# Altium footprint library pcb.PcbLib: 34 footprints (part 2 of 3)
Each footprint in its own frame and in the unit in brackets; x right, y up, seen from the top. Pads: shape width x height; smd on the part's side, far side on the other; paste and mask are expansions set on the pad; w line width, h text height; cw(c..) or ccw(c..) is an arc to the next point about the centre after c.
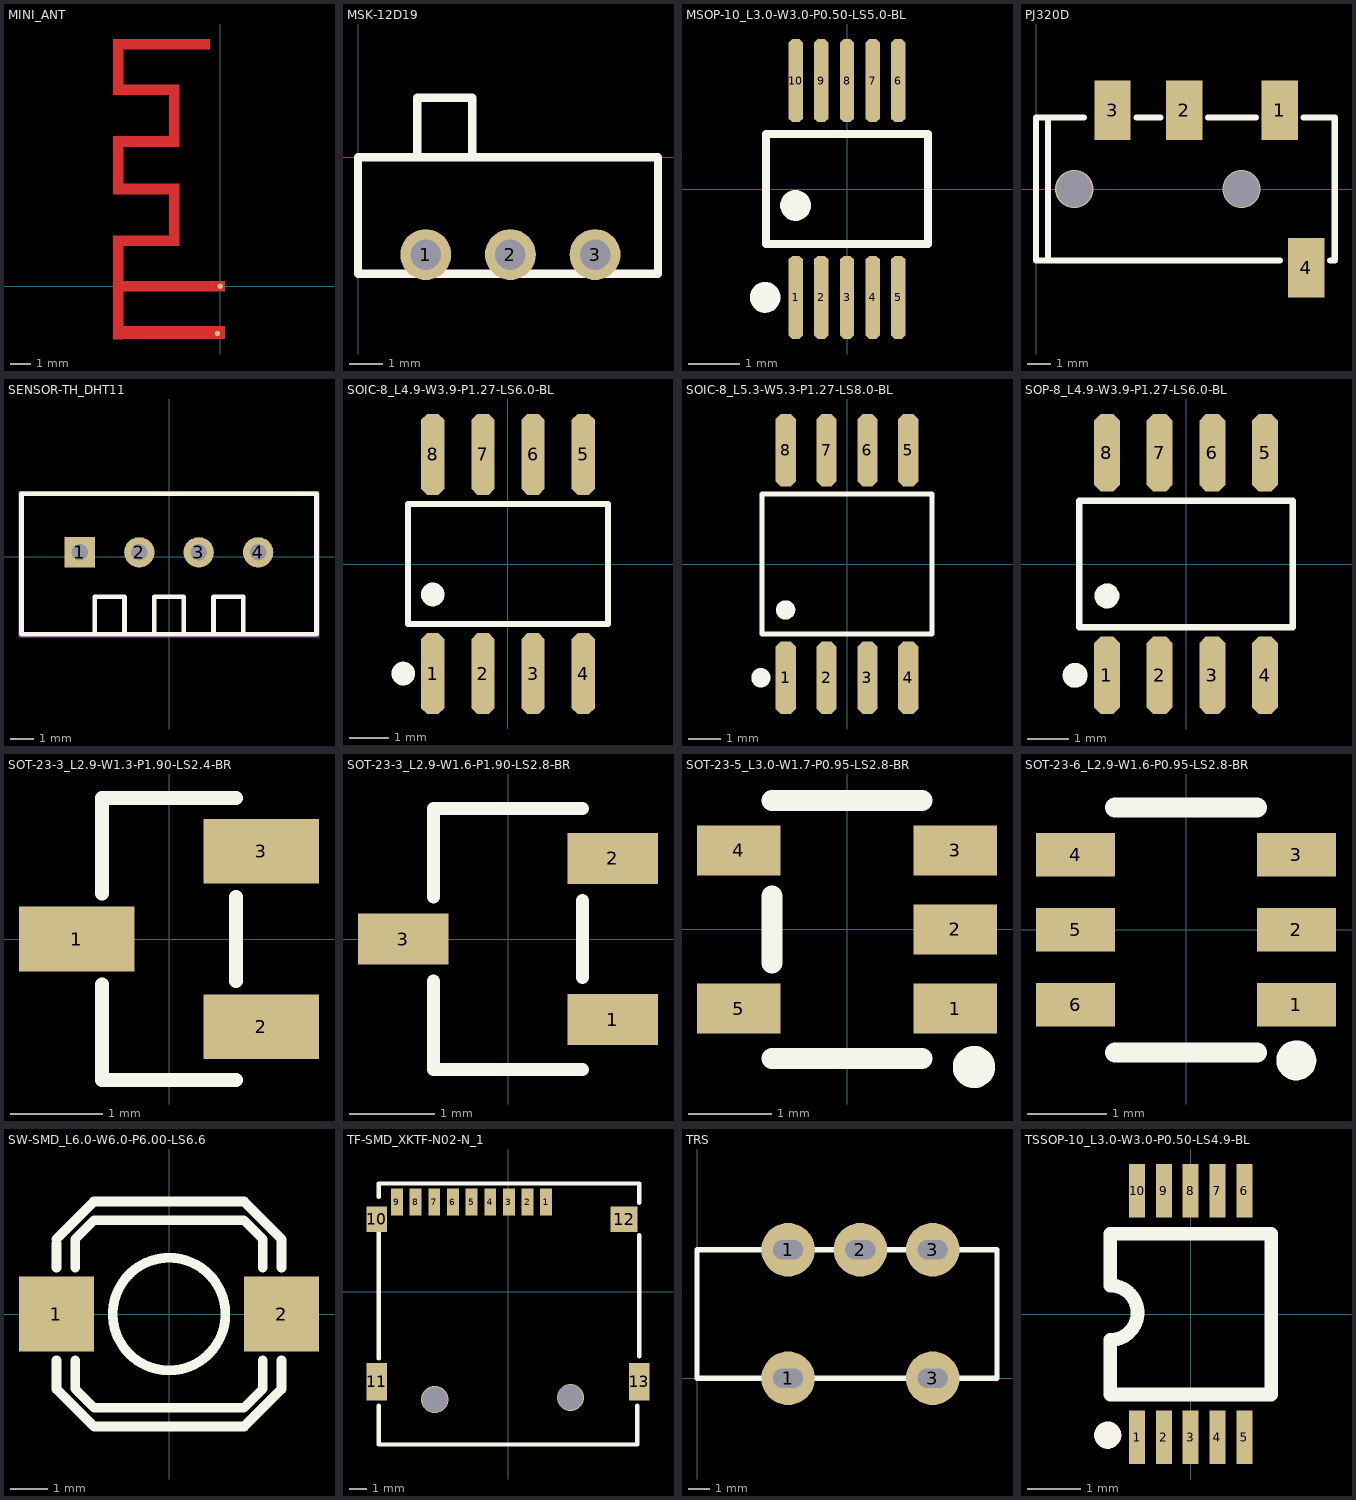
[diagram p1: the footprints below, top view; thin cyan lines are the x and y axes]

## MINI_ANT [mil]
pads (2):
  round 10 smd: 1(0,0) 2(-5,-90)
Top Layer:
  region: -184,-100.4 -203.7,-100.4 -203.7,96.5 -97.4,96.5 -97.4,175.2 -203.7,175.2 -203.7,285.5 -97.4,285.5 -97.4,364.2 -203.7,364.2 -203.7,470.5 -19.7,470.5 -19.7,450.8 -184,450.8 -184,383.9 -77.7,383.9 -77.7,265.8 -184,265.8 -184,194.9 -77.7,194.9 -77.7,76.8 -184,76.8 -184,9.9 8.9,9.9 8.9,-9.8 -184,-9.8
  region: -193.9,-100.3 8.9,-100.3 8.9,-75.7 -193.9,-75.7

## MSK-12D19 [mil]
pads (3):
  round 60 hole 36 mask+4: 1(80,-115) 2(180,-115) 3(280,-115)
Top Overlay:
  lines w10: 0,-137.8 354.3,-137.8 354.3,0 0,0 0,-137.8 ; 70,0 135,0 135,70 70,70 70,0

## MSOP-10_L3.0-W3.0-P0.50-LS5.0-BL [mil]
pads (10):
  oct 11x63.8 smd mask+2: 1(-39.4,-83.1) 2(-19.7,-83.1) 3(0,-83.1) 4(19.7,-83.1) 5(39.4,-83.1) 6(39.4,83.1) 7(19.7,83.1) 8(0,83.1) 9(-19.7,83.1) 10(-39.4,83.1)
Top Overlay:
  lines w6: -62.1,-42.2 -62.1,42.2 62.1,42.2 62.1,-42.2 -62.1,-42.2
  lines w11.8: -68.58,-83.57 -68.43,-84.51 ; -68.58,-82.63 -68.43,-81.69 ; -68.13,-85.41 -67.69,-86.25 ; -68.13,-80.79 -67.69,-79.95 ; -67.12,-87.01 -66.43,-87.67 ; -67.12,-79.19 -66.43,-78.53 ; -65.65,-88.21 -64.79,-88.62 ; -65.65,-77.99 -64.79,-77.58 ; -63.88,-88.88 -62.94,-89 ; -63.88,-77.32 -62.94,-77.2 ; -61.99,-88.96 -61.06,-88.77 ; -61.99,-77.24 -61.06,-77.43 ; -60.17,-88.43 -59.35,-87.96 ; -60.17,-77.77 -59.35,-78.24 ; -58.61,-87.36 -57.98,-86.64 ; -58.61,-78.84 -57.98,-79.56 ; -57.48,-85.84 -57.1,-84.97 ; -57.48,-80.36 -57.1,-81.23 ; -56.88,-84.05 -56.8,-83.1 -56.88,-82.15 ; -45.28,-13.07 -45.13,-14.01 ; -45.28,-12.13 -45.13,-11.19 ; -44.83,-14.91 -44.39,-15.75 ; -44.83,-10.29 -44.39,-9.45 ; -43.82,-16.51 -43.13,-17.17 ; -43.82,-8.69 -43.13,-8.03 ; -42.35,-17.71 -41.49,-18.12 ; -42.35,-7.49 -41.49,-7.08 ; -40.58,-18.38 -39.64,-18.5 ; -40.58,-6.82 -39.64,-6.7 ; -38.69,-18.46 -37.76,-18.27 ; -38.69,-6.74 -37.76,-6.93 ; -36.87,-17.93 -36.05,-17.46 ; -36.87,-7.27 -36.05,-7.74 ; -35.31,-16.86 -34.68,-16.14 ; -35.31,-8.34 -34.68,-9.06 ; -34.18,-15.34 -33.8,-14.47 ; -34.18,-9.86 -33.8,-10.73 ; -33.58,-13.55 -33.5,-12.6 -33.58,-11.65

## PJ320D [mil]
pads (4):
  rect 60x98.4 smd mask+4: 1(401.6,129.9) 2(244.1,129.9) 3(126,129.9) 4(444.9,-129.9)
via 63,0 diameter 62.99 hole 59.06
via 338.6,0 diameter 62.99 hole 59.06
Top Overlay:
  lines w10: 19.7,-118.1 19.7,118.1 ; 78.7,118.1 0,118.1 0,0 0,-118.1 401.6,-118.1 ; 165.4,118.1 204.7,118.1 ; 283.5,118.1 362.2,118.1 ; 440.9,118.1 492.1,118.1 492.1,-118.1 484.3,-118.1

## SENSOR-TH_DHT11 [mil]
pads (4):
  rect 51x51 hole 28 mask+2: 1(-150,7.9)
  round 51 hole 28 mask+2: 2(-50,7.9) 3(50,7.9) 4(150,7.9)
Top Overlay:
  lines w8: -248.4,-129.9 150,-129.9 248.4,-129.9 ; -248.4,-128.3 -248.4,7.9 -248.4,106.3 150,106.3 248.4,106.3 248.4,7.9 248.4,-128.3 ; -125,-129.9 -125,-67.1 -75,-67.1 -75,-129.9 ; -25,-129.9 -25,-67.1 25,-67.1 25,-129.9 ; 75,-129.9 75,-67.1 125,-67.1 125,-129.9
Mechanical 15:
  region: -139.9,7.9 -141.91,7.9 -145.62,6.36 -148.46,3.52 -150,-0.19 -150,-4.21 -148.46,-7.92 -145.62,-10.76 -141.91,-12.3 -139.9,-12.3 -137.89,-12.3 -134.18,-10.76 -131.34,-7.92 -129.8,-4.21 -129.8,-0.19 -131.34,3.52 -134.18,6.36 -137.89,7.9
  region: -39.9,7.9 -41.91,7.9 -45.62,6.36 -48.46,3.52 -50,-0.19 -50,-4.21 -48.46,-7.92 -45.62,-10.76 -41.91,-12.3 -39.9,-12.3 -37.89,-12.3 -34.18,-10.76 -31.34,-7.92 -29.8,-4.21 -29.8,-0.19 -31.34,3.52 -34.18,6.36 -37.89,7.9
  region: 60.1,7.9 58.09,7.9 54.38,6.36 51.54,3.52 50,-0.19 50,-4.21 51.54,-7.92 54.38,-10.76 58.09,-12.3 60.1,-12.3 62.11,-12.3 65.82,-10.76 68.66,-7.92 70.2,-4.21 70.2,-0.19 68.66,3.52 65.82,6.36 62.11,7.9
  region: 160.1,7.9 158.09,7.9 154.38,6.36 151.54,3.52 150,-0.19 150,-4.21 151.54,-7.92 154.38,-10.76 158.09,-12.3 160.1,-12.3 162.11,-12.3 165.82,-10.76 168.66,-7.92 170.2,-4.21 170.2,-0.19 168.66,3.52 165.82,6.36 162.11,7.9
  region: -250,110.3 -250.99,110.3 -252.4,108.89 -252.4,106.91 -250.99,105.5 -250,105.5 -249.01,105.5 -247.6,106.91 -247.6,108.89 -249.01,110.3
  lines w2: -252.4,-133.9 252.4,-133.9 252.4,110.3 -252.4,110.3 -252.4,-133.9

## SOIC-8_L4.9-W3.9-P1.27-LS6.0-BL [mil]
pads (8):
  oct 23.2x80.5 smd mask+2: 1(-75,-109.1) 2(-25,-109.1) 3(25,-109.1) 4(75,-109.1) 5(75,109.2) 6(25,109.2) 7(-25,109.2) 8(-75,109.2)
Top Overlay:
  lines w6: -99.5,-59.9 -99.5,59.9 99.5,59.9 99.5,-59.9 -99.5,-59.9
  lines w11.8: -110.28,-109.57 -110.13,-110.51 ; -110.28,-108.63 -110.13,-107.69 ; -109.83,-111.41 -109.39,-112.25 ; -109.83,-106.79 -109.39,-105.95 ; -108.82,-113.01 -108.13,-113.67 ; -108.82,-105.19 -108.13,-104.53 ; -107.35,-114.21 -106.49,-114.62 ; -107.35,-103.99 -106.49,-103.58 ; -105.58,-114.88 -104.64,-115 ; -105.58,-103.32 -104.64,-103.2 ; -103.69,-114.96 -102.76,-114.77 ; -103.69,-103.24 -102.76,-103.43 ; -101.87,-114.43 -101.05,-113.96 ; -101.87,-103.77 -101.05,-104.24 ; -100.31,-113.36 -99.68,-112.64 ; -100.31,-104.84 -99.68,-105.56 ; -99.18,-111.84 -98.8,-110.97 ; -99.18,-106.36 -98.8,-107.23 ; -98.58,-110.05 -98.5,-109.1 -98.58,-108.15 ; -80.88,-30.77 -80.73,-31.71 ; -80.88,-29.83 -80.73,-28.89 ; -80.43,-32.61 -79.99,-33.45 ; -80.43,-27.99 -79.99,-27.15 ; -79.42,-34.21 -78.73,-34.87 ; -79.42,-26.39 -78.73,-25.73 ; -77.95,-35.41 -77.09,-35.82 ; -77.95,-25.19 -77.09,-24.78 ; -76.18,-36.08 -75.24,-36.2 ; -76.18,-24.52 -75.24,-24.4 ; -74.29,-36.16 -73.36,-35.97 ; -74.29,-24.44 -73.36,-24.63 ; -72.47,-35.63 -71.65,-35.16 ; -72.47,-24.97 -71.65,-25.44 ; -70.91,-34.56 -70.28,-33.84 ; -70.91,-26.04 -70.28,-26.76 ; -69.78,-33.04 -69.4,-32.17 ; -69.78,-27.56 -69.4,-28.43 ; -69.18,-31.25 -69.1,-30.3 -69.18,-29.35

## SOIC-8_L5.3-W5.3-P1.27-LS8.0-BL [mil]
pads (8):
  oct 24.8x88.6 smd mask+2: 1(-75,-139) 2(-25,-139) 3(25,-139) 4(75,-139) 5(75,139) 6(25,139) 7(-25,139) 8(-75,139)
Top Overlay:
  lines w6: -103.9,-85.7 103.9,-85.7 103.9,85.7 -103.9,85.7 -103.9,-85.7
  lines w11.8: -111.08,-139.47 -110.93,-140.41 ; -111.08,-138.53 -110.93,-137.59 ; -110.63,-141.31 -110.19,-142.15 ; -110.63,-136.69 -110.19,-135.85 ; -109.62,-142.91 -108.93,-143.57 ; -109.62,-135.09 -108.93,-134.43 ; -108.15,-144.11 -107.29,-144.52 ; -108.15,-133.89 -107.29,-133.48 ; -106.38,-144.78 -105.44,-144.9 ; -106.38,-133.22 -105.44,-133.1 ; -104.49,-144.86 -103.56,-144.67 ; -104.49,-133.14 -103.56,-133.33 ; -102.67,-144.33 -101.85,-143.86 ; -102.67,-133.67 -101.85,-134.14 ; -101.11,-143.26 -100.48,-142.54 ; -101.11,-134.74 -100.48,-135.46 ; -99.98,-141.74 -99.6,-140.87 ; -99.98,-136.26 -99.6,-137.13 ; -99.38,-139.95 -99.3,-139 -99.38,-138.05 ; -80.88,-56.57 -80.73,-57.51 ; -80.88,-55.63 -80.73,-54.69 ; -80.43,-58.41 -79.99,-59.25 ; -80.43,-53.79 -79.99,-52.95 ; -79.42,-60.01 -78.73,-60.67 ; -79.42,-52.19 -78.73,-51.53 ; -77.95,-61.21 -77.09,-61.62 ; -77.95,-50.99 -77.09,-50.58 ; -76.18,-61.88 -75.24,-62 ; -76.18,-50.32 -75.24,-50.2 ; -74.29,-61.96 -73.36,-61.77 ; -74.29,-50.24 -73.36,-50.43 ; -72.47,-61.43 -71.65,-60.96 ; -72.47,-50.77 -71.65,-51.24 ; -70.91,-60.36 -70.28,-59.64 ; -70.91,-51.84 -70.28,-52.56 ; -69.78,-58.84 -69.4,-57.97 ; -69.78,-53.36 -69.4,-54.23 ; -69.18,-57.05 -69.1,-56.1 -69.18,-55.15

## SOP-8_L4.9-W3.9-P1.27-LS6.0-BL [mil]
pads (8):
  oct 24.8x73.4 smd mask+2: 1(-75,-105.6) 2(-25,-105.6) 3(25,-105.6) 4(75,-105.6) 5(75,105.6) 6(25,105.6) 7(-25,105.6) 8(-75,105.6)
Top Overlay:
  lines w6: -101.4,-59.9 101.4,-59.9 101.4,59.9 -101.4,59.9 -101.4,-59.9
  lines w11.8: -111.08,-106.07 -110.93,-107.01 ; -111.08,-105.13 -110.93,-104.19 ; -110.63,-107.91 -110.19,-108.75 ; -110.63,-103.29 -110.19,-102.45 ; -109.62,-109.51 -108.93,-110.17 ; -109.62,-101.69 -108.93,-101.03 ; -108.15,-110.71 -107.29,-111.12 ; -108.15,-100.49 -107.29,-100.08 ; -106.38,-111.38 -105.44,-111.5 ; -106.38,-99.82 -105.44,-99.7 ; -104.49,-111.46 -103.56,-111.27 ; -104.49,-99.74 -103.56,-99.93 ; -102.67,-110.93 -101.85,-110.46 ; -102.67,-100.27 -101.85,-100.74 ; -101.11,-109.86 -100.48,-109.14 ; -101.11,-101.34 -100.48,-102.06 ; -99.98,-108.34 -99.6,-107.47 ; -99.98,-102.86 -99.6,-103.73 ; -99.38,-106.55 -99.3,-105.6 -99.38,-104.65 ; -80.88,-30.77 -80.73,-31.71 ; -80.88,-29.83 -80.73,-28.89 ; -80.43,-32.61 -79.99,-33.45 ; -80.43,-27.99 -79.99,-27.15 ; -79.42,-34.21 -78.73,-34.87 ; -79.42,-26.39 -78.73,-25.73 ; -77.95,-35.41 -77.09,-35.82 ; -77.95,-25.19 -77.09,-24.78 ; -76.18,-36.08 -75.24,-36.2 ; -76.18,-24.52 -75.24,-24.4 ; -74.29,-36.16 -73.36,-35.97 ; -74.29,-24.44 -73.36,-24.63 ; -72.47,-35.63 -71.65,-35.16 ; -72.47,-24.97 -71.65,-25.44 ; -70.91,-34.56 -70.28,-33.84 ; -70.91,-26.04 -70.28,-26.76 ; -69.78,-33.04 -69.4,-32.17 ; -69.78,-27.56 -69.4,-28.43 ; -69.18,-31.25 -69.1,-30.3 -69.18,-29.35

## SOT-23-3_L2.9-W1.3-P1.90-LS2.4-BR [mil]
pads (3):
  rect 49.2x27.6 smd mask+2: 1(-39.4,0) 2(39.4,-37.4) 3(39.4,37.4)
Top Overlay:
  lines w6: -28.6,-19.5 -28.6,-60.1 28.6,-60.1 ; -28.6,19.5 -28.6,60.1 28.6,60.1 ; 28.6,-17.9 28.6,17.9

## SOT-23-3_L2.9-W1.6-P1.90-LS2.8-BR [mil]
pads (3):
  rect 42.1x23.6 smd mask+2: 1(48.6,-37.4) 2(48.6,37.4) 3(-48.6,0)
Top Overlay:
  lines w6: -34.5,-19.5 -34.5,-60.5 34.5,-60.5 ; -34.5,19.5 -34.5,60.5 34.5,60.5 ; 34.5,-17.9 34.5,17.9

## SOT-23-5_L3.0-W1.7-P0.95-LS2.8-BR [mil]
pads (5):
  rect 39.4x23.6 smd mask+2: 1(51.2,-37.4) 2(51.2,0) 3(51.2,37.4) 4(-51.2,37.4) 5(-51.2,-37.4)
Top Overlay:
  lines w10: -35.4,-61 35.4,-61 ; -35.4,-15.8 -35.4,15.7 ; -35.4,61 35.4,61 ; 55.02,-65.48 55.02,-64.52 ; 55.2,-66.41 55.56,-67.29 ; 55.2,-63.59 55.56,-62.71 ; 56.07,-68.09 56.73,-68.78 ; 56.07,-61.91 56.73,-61.22 ; 57.5,-69.33 58.36,-69.72 ; 57.5,-60.67 58.36,-60.27 ; 59.29,-69.95 60.24,-69.99 ; 59.29,-60.05 60.24,-60.01 ; 61.18,-69.86 62.08,-69.55 ; 61.18,-60.14 62.08,-60.45 ; 62.9,-69.07 63.62,-68.45 ; 62.9,-60.93 63.62,-61.55 ; 64.21,-67.7 64.64,-66.86 ; 64.21,-62.3 64.64,-63.14 ; 64.91,-65.95 65,-65 64.91,-64.05

## SOT-23-6_L2.9-W1.6-P0.95-LS2.8-BR [mil]
pads (6):
  rect 39.4x21.7 smd mask+2: 1(55.1,-37.4) 2(55.1,0) 3(55.1,37.4) 4(-55.1,37.4) 5(-55.1,0) 6(-55.1,-37.4)
Top Overlay:
  lines w10: -35.4,-61 35.4,-61 ; -35.4,61 35.4,61 ; 50.02,-65.48 50.02,-64.52 ; 50.2,-66.41 50.56,-67.29 ; 50.2,-63.59 50.56,-62.71 ; 51.07,-68.09 51.73,-68.78 ; 51.07,-61.91 51.73,-61.22 ; 52.5,-69.33 53.36,-69.72 ; 52.5,-60.67 53.36,-60.27 ; 54.29,-69.95 55.24,-69.99 ; 54.29,-60.05 55.24,-60.01 ; 56.18,-69.86 57.08,-69.55 ; 56.18,-60.14 57.08,-60.45 ; 57.9,-69.07 58.62,-68.45 ; 57.9,-60.93 58.62,-61.55 ; 59.21,-67.7 59.64,-66.86 ; 59.21,-62.3 59.64,-63.14 ; 59.91,-65.95 60,-65 59.91,-64.05

## SW-SMD_L6.0-W6.0-P6.00-LS6.6 [mil]
pads (2):
  rect 78.7x78.7 smd mask+2: 1(-118.1,0) 2(118.1,0)
Top Overlay:
  drawing of 208 lines, arcs and shapes, not listed

## TF-SMD_XKTF-N02-N_1 [mil]
pads (13):
  rect 27.6x63 smd mask+2: 1(88.6,208.7) 2(45.3,208.7) 3(2,208.7) 4(-41.3,208.7) 5(-84.6,208.7) 6(-128,208.7) 7(-171.3,208.7) 8(-214.6,208.7) 9(-257.9,208.7)
  rect 47.2x59.1 smd mask+2: 10(-305.1,169.3)
  rect 47.2x86.6 smd mask+2: 11(-305.1,-208.7) 13(305.1,-208.7)
  rect 63x59.1 smd mask+2: 12(269.7,169.3)
via -170,-250 diameter 62.99 hole 59.06
via 145,-245 diameter 62.99 hole 59.06
Top Overlay:
  lines w10: -300,-264.4 -300,-354.4 300,-354.4 300,-264.4 ; -300,-154.4 -300,140.6 ; -300,220.6 -300,252 305,252 305,207.1 ; 305,-149.4 305,131.5

## TRS [mil]
pads (5):
  round 100 hole 36 slot 56 at 0 deg mask+10: 1(170,0) 1(170,240) 2(305,240) 3(440,0) 3(440,240)
Top Overlay:
  lines w10: 0,0 0,240 560,240 560,0 0,0

## TSSOP-10_L3.0-W3.0-P0.50-LS4.9-BL [mil]
pads (10):
  rect 11.8x39.4 smd mask+2: 1(-39.4,-90.5) 2(-19.7,-90.5) 3(0,-90.5) 4(19.7,-90.5) 5(39.4,-90.5) 6(39.4,90.6) 7(19.7,90.6) 8(0,90.6) 9(-19.7,90.6) 10(-39.4,90.6)
Top Overlay:
  lines w10: -65.98,-89.48 -65.98,-88.52 ; -65.8,-90.41 -65.44,-91.29 ; -65.8,-87.59 -65.44,-86.71 ; -64.93,-92.09 -64.27,-92.78 ; -64.93,-85.91 -64.27,-85.22 ; -63.5,-93.33 -62.64,-93.72 ; -63.5,-84.67 -62.64,-84.28 ; -61.71,-93.95 -60.76,-93.99 ; -61.71,-84.05 -60.76,-84.01 ; -59.82,-93.86 -58.92,-93.55 ; -59.82,-84.14 -58.92,-84.45 ; -59.1,21 -59.1,59.1 59.1,59.1 59.1,-59.1 -59.1,-59.1 -59.1,-19 -58.1,-19 ; -59.05,21 -58.06,20.97 ; -58.1,-93.07 -57.38,-92.45 ; -58.1,-84.93 -57.38,-85.55 ; -57.1,-18.92 -56.11,-18.8 ; -57.06,20.9 -56.07,20.77 ; -56.79,-91.7 -56.36,-90.86 ; -56.79,-86.3 -56.36,-87.14 ; -56.09,-89.95 -56,-89 -56.09,-88.05 ; -55.13,-18.63 -54.16,-18.41 ; -55.09,20.6 -54.12,20.38 ; -53.2,-18.14 -52.25,-17.82 ; -53.16,20.11 -52.21,19.79 ; -51.32,-17.46 -50.41,-17.05 ; -51.28,19.42 -50.38,19.01 ; -49.52,-16.59 -48.66,-16.09 ; -49.49,18.55 -48.62,18.05 ; -47.82,-15.55 -47.01,-14.97 ; -47.79,17.51 -46.98,16.93 ; -46.23,-14.35 -45.48,-13.69 ; -46.2,16.31 -45.45,15.64 ; -44.76,-13 -44.09,-12.27 ; -44.74,14.95 -44.06,14.22 ; -43.44,-11.5 -42.84,-10.71 ; -43.42,13.45 -42.82,12.65 ; -42.28,-9.88 -41.76,-9.03 ; -42.26,11.83 -41.74,10.98 ; -41.28,-8.16 -40.84,-7.26 ; -41.26,10.1 -40.83,9.2 ; -40.46,-6.34 -40.11,-5.4 ; -40.44,8.28 -40.1,7.34 ; -39.82,-4.45 -39.57,-3.48 ; -39.81,6.39 -39.56,5.42 ; -39.37,-2.5 -39.22,-1.52 ; -39.37,4.45 -39.22,3.46 ; -39.12,-0.53 -39.07,0.47 ; -39.12,2.47 -39.07,1.47